# EAGLE library part LA6681MC (library Eagle_CAD_parts)
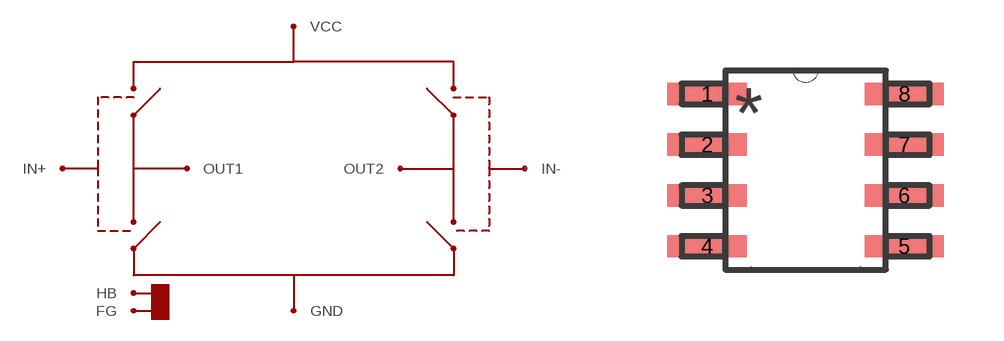
[diagram p0: symbol with the pads of 8SOIC; footprint 8SOIC]

Designator prefix -

## LA6681MC_SMD  [8SOIC]
1  IN+
2  HB
3  IN-
4  OUT1
5  GND
6  OUT2
7  VCC
8  FG

## Footprint 8SOIC (pad centres in mm)
smd 1.981 x 0.559: 1 -2.464,1.905; 2 -2.464,0.635; 3 -2.464,-0.635; 4 -2.464,-1.905; 5 2.464,-1.905; 6 2.464,-0.635; 7 2.464,0.635; 8 2.464,1.905